# Altium footprint library Devices.PcbLib: 190 footprints (part 2 of 12)
Each footprint in its own frame and in the unit in brackets; x right, y up, seen from the top. Pads: shape width x height; smd on the part's side, far side on the other; paste and mask are expansions set on the pad; w line width, h text height; cw(c..) or ccw(c..) is an arc to the next point about the centre after c.
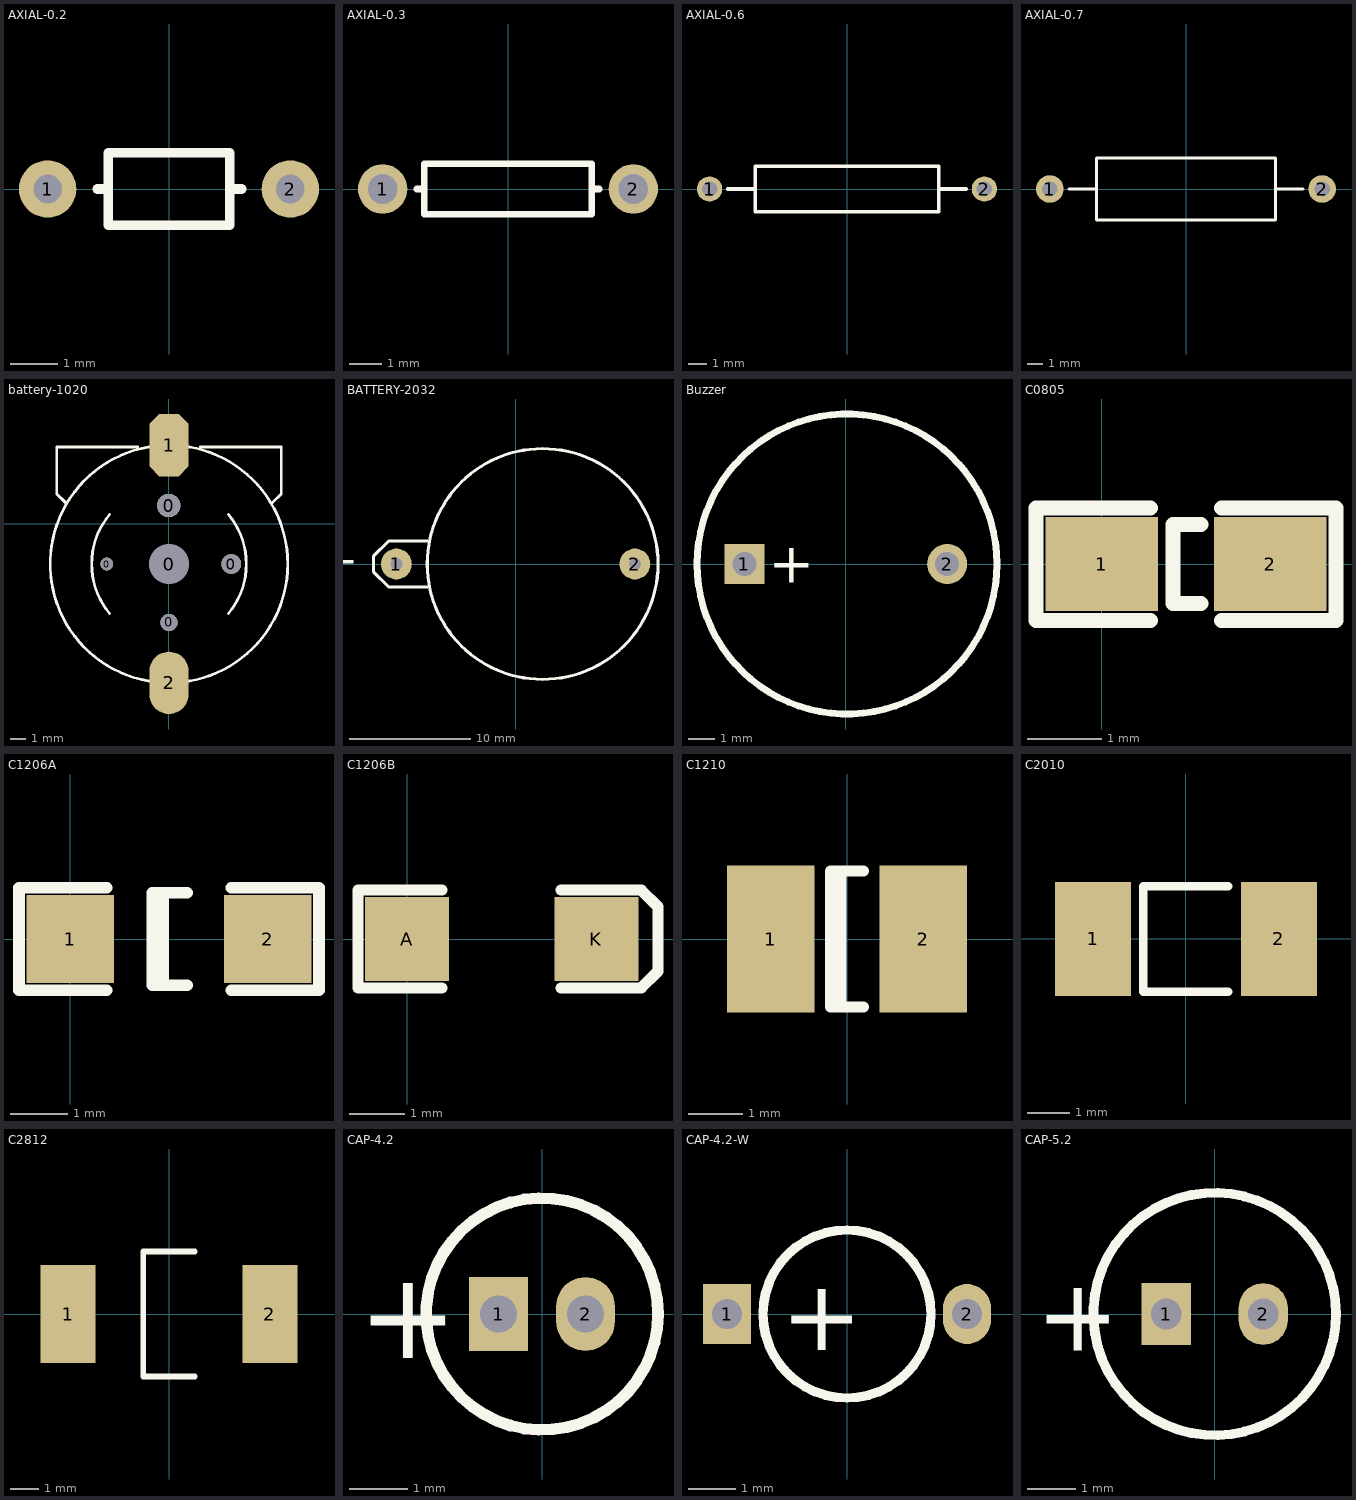
[diagram p1: the footprints below, top view; thin cyan lines are the x and y axes]

## AXIAL-0.2 [mm] "1/6W碳膜及热敏电阻、直板独石电容"
pads (2):
  round 1.2 hole 0.6: 1(-2.54,0) 2(2.54,0)
Top Overlay:
  lines w0.2: -1.499,0 -1.27,0 ; 1.295,0 1.524,0 ; -1.27,-0.762 -1.27,0.762 1.27,0.762 1.27,-0.762 -1.27,-0.762

## AXIAL-0.3 [mm] "1/4W金属膜、压敏及热敏电阻"
height 1.524
pads (2):
  round 1.5 hole 0.9: 1(-3.81,0) 2(3.81,0)
Top Overlay:
  lines w0.2: -2.769,0 -2.54,0 ; 2.769,0 2.54,0 ; 2.54,0 2.54,0.762 -2.54,0.762 -2.54,-0.762 2.54,-0.762 2.54,0

## AXIAL-0.6 [mm]
pads (2):
  round 1.4 hole 0.85: 1(-7.62,0) 2(7.62,0)
Top Overlay:
  lines w0.2: -6.604,0 -5.08,0 ; 5.08,0 6.604,0 ; -5.08,-1.27 -5.08,1.27 5.08,1.27 5.08,-1.27 -5.08,-1.27

## AXIAL-0.7 [mm] "1W/2W碳膜电阻"
pads (2):
  round 1.8 hole 1: 1(-8.89,0) 2(8.89,0)
Top Overlay:
  lines w0.2: -7.62,0 -5.842,0 ; 5.842,0 7.62,0 ; -5.842,-2.032 -5.842,2.032 5.842,2.032 5.842,-2.032 -5.842,-2.032

## battery-1020 [mm]
pads (7):
  round 0.813 hole 0.813: 0(-3.979,-2.576)
  round 1.5 hole 1.5: 0(-0.016,1.174)
  round 1.1 hole 1.1: 0(0.009,-6.326)
  round 2.54 hole 2.54: 0(0.009,-2.576)
  round 1.27 hole 1.27: 0(3.997,-2.576)
  oct 2.5x4 smd: 1(0.009,5.044)
  oval 2.5x4 smd: 2(0.009,-10.196)
Top Overlay:
  lines w0.178: -6.616,1.349 -7.191,1.924 -7.191,4.924 -1.991,4.924 ; -3.803,-5.748 cw(c0.009,-2.576) -3.801,0.599 ; -0.824,-10.15 cw(c0.009,-2.576) -0.824,4.999 ; 0.842,-10.15 ccw(c0.009,-2.576) 7.629,-2.576 ccw(c0.009,-2.576) 0.842,4.999 ; 2.009,4.924 7.209,4.924 7.209,1.924 6.609,1.324 ; 3.821,-5.748 ccw(c0.009,-2.576) 3.824,0.594

## BATTERY-2032 [mil]
pads (2):
  round 100 hole 40: 1(-387.5,0) 2(387.5,0)
Top Overlay:
  circle w10: c87.5,0 r375
  lines w10: -287.5,-75 -412.5,-75 -462.5,-25 -462.5,25 -412.5,75 -287.5,75
  text "+" at -512.5,50 h100

## Buzzer [mm]
height 9.5
pads (2):
  rect 1.5x1.5 hole 0.9: 1(-3.81,0)
  round 1.5 hole 0.9: 2(3.81,0)
Top Overlay:
  circle w0.254: c0.046,0 r5.634
  text "+" at -2.896,-0.711 h1.5

## C0805 [mil]
height 100
pads (2):
  rect 60x50 smd: 1(0,0) 2(90,0)
Top Overlay:
  lines w8: 26,-30 -35,-30 -35,30 26,30 ; 53,-21 38,-21 38,21 53,21 ; 64,-30 125,-30 125,30 64,30

## C1206A [mil] "Chip Capacitor; Body 3.2 x 1.6 mm (LxW typ)"
height 53.15
pads (2):
  rect 60x60 smd: 1(0,0) 2(135,0)
Top Overlay:
  lines w7.87: 63.67,-31.5 63.67,-15.75 63.67,15.75 63.67,31.5 ; 79.81,-31.5 56.19,-31.5 56.19,31.5 79.81,31.5
  lines w8: 25,-35 -35,-35 -35,35 25,35 ; 110,-35 170,-35 170,35 110,35

## C1206B [mil]
pads (2):
  rect 60x60 smd: A(0,0) K(135,0)
Top Overlay:
  lines w8: 25,-35 -35,-35 -35,35 25,35 ; 110,-35 167,-35 179,-23 179,23 167,35 110,35

## C1210 [mm] "Chip Capacitor; Body 3.2 x 2.5 mm (LxW typ)"
height 1.35
pads (2):
  rect 1.6x2.7 smd: 1(-1.4,0) 2(1.4,0)
Top Overlay:
  lines w0.2: -0.11,-1.25 -0.11,1.25 ; 0.3,-1.25 -0.3,-1.25 -0.3,1.25 0.3,1.25

## C2010 [mm] "Chip Resistor; Body 5.0 x 2.5 mm (LxW typ)"
height 0.6
pads (2):
  rect 1.8x2.7 smd: 1(-2.2,0) 2(2.2,0)
Top Overlay:
  lines w0.2: 1,-1.25 -1.016,-1.25 -1.016,1.25 1,1.25

## C2812 [mm] "Chip Capacitor; Body 4.5 x 3.2 mm (LxW typ)"
height 1.1
pads (2):
  rect 1.9x3.4 smd: 1(-3.492,0) 2(3.492,0)
Top Overlay:
  lines w0.2: 0.891,-2.159 -0.889,-2.159 -0.889,2.159 0.891,2.159

## CAP-4.2 [mm] "Capacitor, Electrolytic, Radial; Body 4 x 5 mm (Dia.xH typ); Pin Spacing 1.5 mm (typ)"
pads (2):
  rect 1.016x1.27 hole 0.635: 1(-0.75,0)
  oval 1.016x1.27 hole 0.635: 2(0.75,0)
Top Overlay:
  circle w0.2: c0,0 r2
  text "+" at -3.175,-0.762 h1.5

## CAP-4.2-W [mil] "Capacitor, Electrolytic, Radial; Body 4 x 5 mm (Dia.xH typ); Pin Spacing 1.5 mm (typ)"
pads (2):
  rect 40x50 hole 25: 1(-100,0)
  oval 40x50 hole 25: 2(100,0)
Top Overlay:
  circle w7.87: c0,0 r70
  text "+" at -55,-30 h59.06

## CAP-5.2 [mm] "Capacitor, Electrolytic, Radial; Body 5 x 6.8 mm (Dia.xH typ); Pin Spacing 2 mm (typ)"
pads (2):
  rect 1.016x1.27 hole 0.635: 1(-1,0)
  oval 1.016x1.27 hole 0.635: 2(1,0)
Top Overlay:
  circle w0.2: c0,0 r2.5
  text "+" at -3.683,-0.762 h1.5